# EAGLE library part ECS-LVDS25-2000 (library _GpsAttitude)
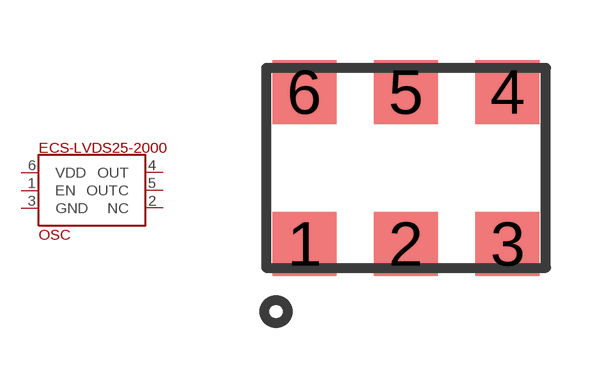
[diagram p11: symbol with the pads of 7X5-6-OSC; footprint 7X5-6-OSC]

Designator prefix OSC

## ECS-LVDS25-2000  [7X5-6-OSC]
1  EN
2  NC
3  GND
4  OUT
5  OUTC
6  VDD

## Footprint 7X5-6-OSC (pad centres in mm)
smd 1.6 x 1.6: 1 -2.54,-1.9; 2 0,-1.9; 3 2.54,-1.9; 4 2.54,1.9; 5 0,1.9; 6 -2.54,1.9